# Altium footprint library Avaliador_de_Conforto_Termico.PcbLib: 16 footprints
Each footprint in its own frame and in the unit in brackets; x right, y up, seen from the top. Pads: shape width x height; smd on the part's side, far side on the other; paste and mask are expansions set on the pad; w line width, h text height; cw(c..) or ccw(c..) is an arc to the next point about the centre after c.
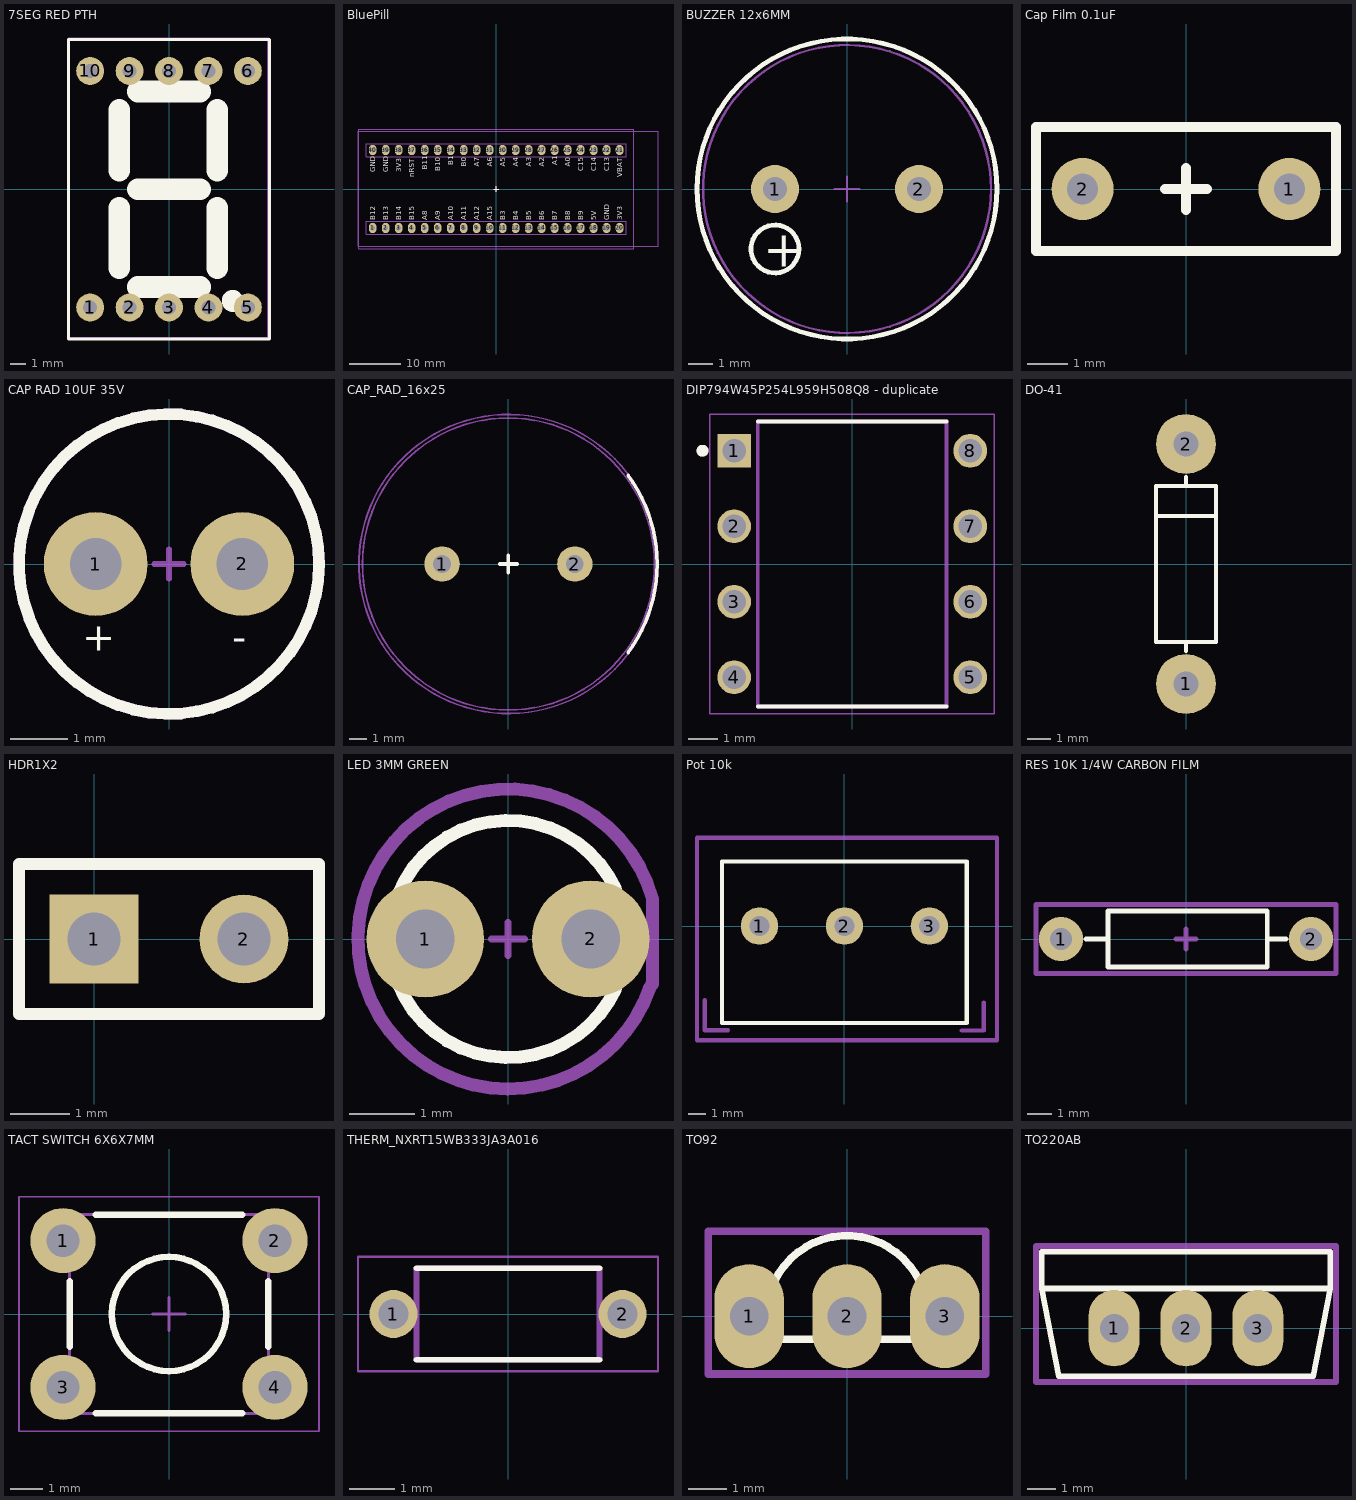
[diagram p0: the footprints below, top view; thin cyan lines are the x and y axes]

## 7SEG RED PTH [mm]
pads (10):
  round 1.8 hole 0.9: 1(-5.08,-7.62) 2(-2.54,-7.62) 3(0,-7.62) 4(2.54,-7.62) 5(5.08,-7.62) 6(5.08,7.62) 7(2.54,7.62) 8(0,7.62) 9(-2.54,7.62) 10(-5.08,7.62)
Top Overlay:
  circle w1.2: c4.1,-7.2 r0.1
  lines w0.2: -6.477,-9.652 -6.477,9.652 6.477,9.652 6.477,-9.652 -6.477,-9.652
  lines w1.4: -3.2,-5.1 -3.2,-1.2 ; -3.2,1.2 -3.2,5.1 ; -2,-6.3 2,-6.3 ; -2,0 2,0 ; -2,6.3 2,6.3 ; 3.1,-5.1 3.1,-1.2 ; 3.1,1.2 3.1,5.1
Mechanical 15:
  lines w0.2: -0.5,0 0.5,0 ; 0,-0.5 0,0.5 ; -6.48,-9.62 -6.48,9.68 6.42,9.68 6.42,-9.62 -6.48,-9.62
Mechanical 29:
  text ".Designator" at -6.3,10.2 h0.5
  text "1" at -4.1,-9 h0.5
3D body "7SEG RED PTH.STEP": height 8.2, standoff -3.8, extent -6.38,-9.52 6.32,9.53

## BluePill [mm] "BluePill"
height 19.68
pads (40):
  oval 1.5x2 hole 0.9: 1(-24.13,-7.62) 2(-21.59,-7.62) 3(-19.05,-7.62) 4(-16.51,-7.62) 5(-13.97,-7.62) 6(-11.43,-7.62) 7(-8.89,-7.62) 8(-6.35,-7.62) 9(-3.81,-7.62) 10(-1.27,-7.62) 11(1.27,-7.62) 12(3.81,-7.62) 13(6.35,-7.62) 14(8.89,-7.62) 15(11.43,-7.62) 16(13.97,-7.62) 17(16.51,-7.62) 18(19.05,-7.62) 19(21.59,-7.62) 20(24.13,-7.62) 21(24.13,7.62) 22(21.59,7.62) 23(19.05,7.62) 24(16.51,7.62) 25(13.97,7.62) 26(11.43,7.62) 27(8.89,7.62) 28(6.35,7.62) 29(3.81,7.62) 30(1.27,7.62) 31(-1.27,7.62) 32(-3.81,7.62) 33(-6.35,7.62) 34(-8.89,7.62) 35(-11.43,7.62) 36(-13.97,7.62) 37(-16.51,7.62) 38(-19.05,7.62) 39(-21.59,7.62) 40(-24.13,7.62)
Top Overlay:
  lines w0.2: -0.5,0 0.5,0 ; 0,-0.5 0,0.5
  text "GND" at -23.622,3.302 h1
  text "GND" at -21.082,3.302 h1
  text "3V3" at -18.542,3.302 h1
  text "nRST" at -16.002,2.302 h1
  text "B11" at -13.462,3.802 h1
  text "B10" at -10.922,3.469 h1
  text "B1" at -8.382,4.635 h1
  text "B0" at -5.842,4.302 h1
  text "A7" at -3.302,4.302 h1
  text "A6" at -0.762,4.302 h1
  text "A5" at 1.778,4.302 h1
  text "A4" at 4.318,4.302 h1
  text "VBAT" at 24.638,2.302 h1
  text "C13" at 22.098,3.469 h1
  text "C14" at 19.558,3.469 h1
  text "C15" at 17.018,3.469 h1
  text "A0" at 14.478,4.302 h1
  text "A1" at 11.938,4.635 h1
  text "A2" at 9.398,4.302 h1
  text "A3" at 6.858,4.302 h1
  text "B5" at 6.858,-6.096 h1
  text "B6" at 9.398,-6.096 h1
  text "B7" at 11.938,-6.096 h1
  text "B8" at 14.478,-6.096 h1
  text "B9" at 17.018,-6.096 h1
  text "5V" at 19.558,-6.096 h1
  text "GND" at 22.098,-6.096 h1
  text "3V3" at 24.638,-6.096 h1
  text "B4" at 4.318,-6.096 h1
  text "B3" at 1.778,-6.096 h1
  text "A15" at -0.762,-6.096 h1
  text "A12" at -3.302,-6.096 h1
  text "A11" at -5.842,-6.096 h1
  text "A10" at -8.382,-6.096 h1
  text "A9" at -10.922,-6.096 h1
  text "A8" at -13.462,-6.096 h1
  text "B15" at -16.002,-6.096 h1
  text "B14" at -18.542,-6.096 h1
  text "B13" at -21.082,-6.096 h1
  text "B12" at -23.622,-6.096 h1
Mechanical 13:
  lines w0.1: -27,-11.227 31.648,-11.227 31.648,11.273 -27,11.273 -27,-11.227 ; -25.4,-8.89 25.4,-8.89 25.4,-6.35 -25.4,-6.35 -25.4,-8.89 ; -25.4,6.35 -25.4,8.89 25.4,8.89 25.4,6.35 -25.4,6.35
Mechanical 15:
  lines w0.05: -26.9,-11.7 26.9,-11.7 26.9,11.7 -26.9,11.7 -26.9,-11.7
  lines w0.1: -0.5,0 0.5,0 ; 0,-0.5 0,0.5
Mechanical 29:
  text ".Designator" at 0,0 h1.52
3D body "BluePill.STEP": height 19.68, standoff -2.09, extent -26.988,-11.227 31.648,11.273

## BUZZER 12x6MM [mm] "BUZZER 12x6MM"
height 6.33
pads (2):
  round 2 hole 1: 1(-3,0) 2(3,0)
Top Overlay:
  circle w0.2: c-3,-2.5 r1
  circle w0.2: c0,0 r6.25
  text "+" at -3.5,-3.25 h1.5
Mechanical 13:
  circle w0.1: c0,0 r6
Mechanical 15:
  circle w0.1: c0,0 r6.25
  lines w0.1: -0.508,0 0.508,0 ; 0,-0.508 0,0.508
Mechanical 29:
  text ".Designator" at 0,0 h4
3D body "Buzzer.STEP": height 6.33, standoff -2, extent -6,-6 6,6

## Cap Film 0.1uF [mil] "Cap Film 0.1uF"
height 255.91
pads (2):
  round 60 hole 30: 1(100,0) 2(-100,0)
Top Overlay:
  lines w10: 0,-20 0,20 ; -145,-60 145,-60 145,60 -145,60 -145,-60 ; -20,0 20,0 -20,0
Mechanical 15:
  lines w10: -145,-60 145,-60 145,60 -145,60 -145,-60
3D body "User Library-MKT_B32529.step": height 236.22, standoff -255.91, extent -143.7,-60 143.7,58.11

## CAP RAD 10UF 35V [mm]
pads (2):
  round 1.8 hole 0.9: 1(-1.27,0) 2(1.27,0)
Top Overlay:
  circle w0.2: c0,0 r2.6
  text "-" at 1.1,-1.5 h0.5
  text "+" at -1.5,-1.5 h0.5
Mechanical 15:
  circle w0.2: c0,0 r2.6
  lines w0.1: -0.254,0 0.254,0 ; 0,-0.254 0,0.254
Mechanical 29:
  text "-" at 1.1,-1.5 h0.5
  text "+" at -1.5,-1.5 h0.5
  text ".Designator" at -2.4,3 h0.5
3D body "CAP ELE PTH.STEP": height 12.2, standoff -1.7, extent -2.5,-2.5 2.5,2.5

## CAP_RAD_16x25 [mm] "CAP_RAD_16x25"
height 25
pads (2):
  round 2 hole 1: 1(-3.75,0) 2(3.75,0)
Top Overlay:
  lines w0.2: -0.5,0 0.5,0 ; 0,-0.5 0,0.5 ; 6.758,-5.006 ccw(c-0.05,0) 6.758,5.006
Mechanical 13:
  circle w0.1: c0,0 r8.25
Mechanical 15:
  circle w0.1: c0,0 r8.45
  lines w0.1: -0.5,0 0.5,0 ; 0,-0.5 0,0.5
3D body "CAP_RAD_16x25.STEP": height 25.4, standoff -3.5, extent -8.25,-8.25 8.25,8.25

## DIP794W45P254L959H508Q8 - duplicate [mm]
pads (8):
  rect 1.13x1.13 hole 0.78: 1(-3.97,3.81)
  round 1.13 hole 0.78: 2(-3.97,1.27) 3(-3.97,-1.27) 4(-3.97,-3.81) 5(3.97,-3.81) 6(3.97,-1.27) 7(3.97,1.27) 8(3.97,3.81)
Top Overlay:
  circle w0.2: c-5.035,3.81 r0.1
  lines w0.127: -3.175,-4.795 3.175,-4.795 ; -3.175,4.795 3.175,4.795
Mechanical 13:
  circle w0.2: c-5.035,3.81 r0.1
  lines w0.127: -3.175,-4.795 3.175,-4.795 3.175,4.795 -3.175,4.795 -3.175,-4.795
Mechanical 15:
  lines w0.05: -4.785,-5.045 4.785,-5.045 4.785,5.045 -4.785,5.045 -4.785,-5.045

## DO-41 [mil] "Diode, thru-hole"
height 106.3
pads (2):
  round 100 / inner round 0 / far side round 100 hole 42: 1(0,-200) 2(0,200)
Top Overlay:
  lines w6: -50,80 50,80 ; 0,-145 0,-130 ; 0,130 0,145 ; -50,-130 50,-130 50,130 -50,130 -50,-130
3D body "DIODE0_4-DEFAULT.STEP": height 100.5, standoff -100, extent -51,-215 50,215

## HDR1X2 [mm]
pads (2):
  rect 1.5x1.5 hole 0.9: 1(0,0)
  round 1.5 hole 0.9: 2(2.54,0)
Top Overlay:
  lines w0.2: -1.27,-1.27 -1.27,1.27 3.81,1.27 3.81,-1.27 -1.27,-1.27

## LED 3MM GREEN [mm]
pads (2):
  round 1.8 hole 0.9: 1(-1.27,0) 2(1.27,0)
Top Overlay:
  lines w0.2: 1.651,-0.762 cw(c0,0) 1.651,0.762 1.651,-0.762
Mechanical 15:
  lines w0.1: -0.254,0 0.254,0 ; 0,-0.254 0,0.254
  lines w0.2: 2.182,-0.727 cw(c0,0) 2.216,0.616 2.216,-0.693 2.182,-0.727
Mechanical 29:
  text "K" at 0.635,-1.524 h0.5
  text "A" at -1.143,-1.524 h0.5
  text ".Designator" at -2.159,2.794 h0.5
3D body "LED 3MM GREEN.STEP": height 5.85, standoff -1.95, extent -1.6,-1.6 1.57,1.6

## Pot 10k [mm]
pads (3):
  round 2.2 hole 1.2: 1(-5,0) 2(0,0) 3(5,0)
Top Overlay:
  lines w0.254: -7.2,-5.7 -7.2,3.8 7.2,3.8 7.2,-5.7 -7.2,-5.7
Mechanical 13:
  lines w0.254: -8.225,-4.375 -8.225,-6.125 -6.85,-6.125 ; 6.9,-6.15 8.2,-6.15 8.2,-4.5
Mechanical 15:
  lines w0.254: -8.675,-6.725 -8.675,5.2 8.975,5.2 8.975,-6.725 8.925,-6.725 -8.675,-6.725
3D body "Potentiometer10K.STEP": height 21.17, standoff -3.68, extent -8.145,-5.55 8.195,23.49

## RES 10K 1/4W CARBON FILM [mm]
pads (2):
  round 1.8 hole 0.9: 1(-5.08,0) 2(5.08,0)
Top Overlay:
  lines w0.2: -4.064,0 -3.175,0 ; 3.302,0 4.064,0 ; -3.175,-1.143 -3.175,1.143 3.302,1.143 3.302,-1.143 -3.175,-1.143
Mechanical 15:
  lines w0.2: -0.4,0 0.4,0 ; 0,-0.4 0,0.4 ; -6.096,-1.4 6.096,-1.4 6.096,1.4 -6.096,1.4 -6.096,-1.4
Mechanical 29:
  text "1" at -3.937,-1.016 h0.5
  text ".Designator" at -5.9,1.8 h0.5
3D body "RES 10K .25W CARBON FILM.STEP": height 3.27, standoff -1.27, extent -5.473,-1.27 5.474,1.27

## TACT SWITCH 6X6X7MM [mm] "Tactile Switch 6x6x7mm"
height 7
pads (4):
  round 2 hole 1: 1(-3.25,2.25) 2(3.25,2.25) 3(-3.25,-2.25) 4(3.25,-2.25)
Top Overlay:
  circle w0.2: c0,0 r1.75
  lines w0.2: -3.05,-1 -3.05,1 ; -2.25,-3.05 2.25,-3.05 ; -2.25,3.05 2.25,3.05 ; 3.05,-1 3.05,1
Mechanical 13:
  circle w0.1: c0,0 r1.75
  lines w0.1: -3.05,-3.05 3.05,-3.05 3.05,3.05 -3.05,3.05 -3.05,-3.05
Mechanical 15:
  lines w0.05: -4.6,-3.6 -4.6,3.6 4.6,3.6 4.6,-3.6 -4.6,-3.6
  lines w0.1: -0.5,0 0.5,0 ; 0,-0.5 0,0.5
Mechanical 29:
  text ".Designator" at 0,0 h2
3D body "TACT SWITCH 7MM.STEP": height 7, standoff -3.5, extent -3.95,-3.1 3.95,3.1

## THERM_NXRT15WB333JA3A016 [mm]
height 8.5
pads (2):
  round 1.05 hole 0.65: 1(-2.5,0) 2(2.5,0)
Top Overlay:
  lines w0.127: -2,-1 2,-1 ; -2,1 2,1
Mechanical 13:
  lines w0.127: -2,-1 -2,1 2,1 2,-1 -2,-1
Mechanical 15:
  lines w0.05: -3.275,-1.25 3.275,-1.25 3.275,1.25 -3.275,1.25 -3.275,-1.25
3D body "step_temp.STEP": height 7.6, standoff -8.4, extent -2.7,-1 2.7,1

## TO92 [mm]
pads (3):
  oval 1.8x2.7 hole 1: 1(-2.54,0) 2(0,0) 3(2.54,0)
Top Overlay:
  lines w0.2: -2,-0.6 cw(c0,0) 2,-0.6 -2,-0.6
Mechanical 15:
  lines w0.1: -0.2,0.35 0.2,0.35 ; 0,0.15 0,0.55
  lines w0.2: -3.6,-1.5 3.6,-1.5 3.6,2.2 -3.6,2.2 -3.6,-1.5
Mechanical 29:
  text ".Designator" at -3.4,2.6 h0.5
  text "1" at -3.2,1.4 h0.5
3D body "TO92.STEP": height 6.83, standoff -1.9, extent -2.74,-0.568 2.74,2.04

## TO220AB [mm]
pads (3):
  oval 1.8x2.7 hole 1: 1(-2.54,0) 2(0,0) 3(2.54,0)
Top Overlay:
  lines w0.2: -5.1,1.4 -5.1,2.7 5.1,2.7 5.1,1.4 ; -5.1,1.4 5.1,1.4 ; -5.1,1.4 -4.5,-1.7 4.5,-1.7 5.1,1.4
Mechanical 15:
  lines w0.1: -0.2,0.5 0.2,0.5 ; 0,0.3 0,0.7
  lines w0.2: -5.3,-1.9 5.3,-1.9 5.3,2.9 -5.3,2.9 -5.3,-1.9
Mechanical 29:
  text ".Designator" at -5.1,3.3 h0.5
  text "1" at -3.9,-1.4 h0.5
3D body "TO220AB.STEP": height 19.34, standoff -1.98, extent -5.15,-1.778 5.15,2.732